# Altium schematic symbol library Heat Sinks.SchLib: 1 symbol
Pins are listed as number, name and electrical type; pins without a type are passive.

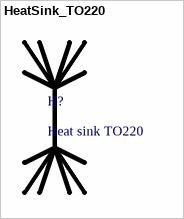
[diagram p0: symbol HeatSink_TO220]

## HeatSink_TO220
designator H?, comment Heat sink TO220
footprint HeatSink_TO220